# EAGLE library part IR2125PBF (library powermax)
SINGLE CHANNEL DRIVER
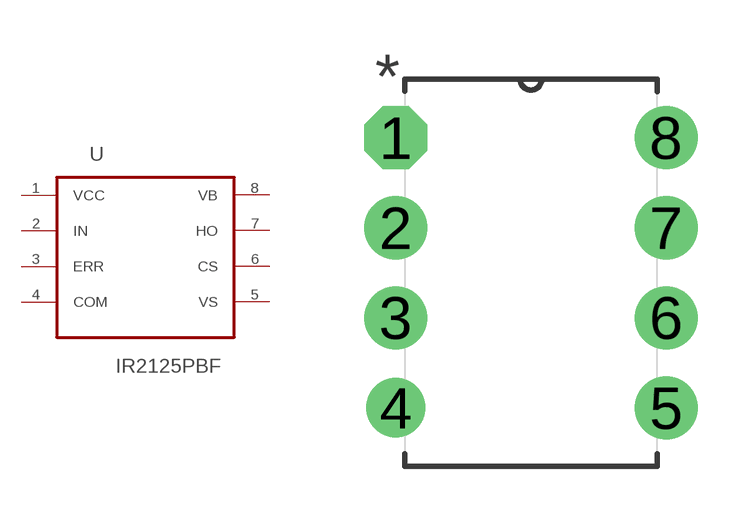
[diagram p1: symbol with the pads of DIP254P762X533-8; footprint DIP254P762X533-8]

Designator prefix U

## IR2125PBF (MPN: IR2125PBF; OC_FARNELL: 9101721; OC_NEWARK: 19K8423; PACKAGE: PDIP; SUPPLIER: INTERNATIONAL RECTIFIER)  [DIP254P762X533-8]
1  VCC  pwr
2  IN  in
3  ERR  in
4  COM  pas
5  VS  pwr
6  CS  in
7  HO  out
8  VB  pwr

## Footprint DIP254P762X533-8 (pad centres in mm)
drill 1 pad 1.778 octagon: 1 -7.62,7.62
drill 1 pad 1.778: 2 -7.62,5.08; 3 -7.62,2.54; 5 0,0; 6 0,2.54; 7 0,5.08; 8 0,7.62
drill 1.118: 4 -7.62,0